# EAGLE library part CC1R5-1212SR-E (library SAE_2019)
CC1R5-1212SR-E Isolated DC/DC Converters 1.5W 12V 0.125A
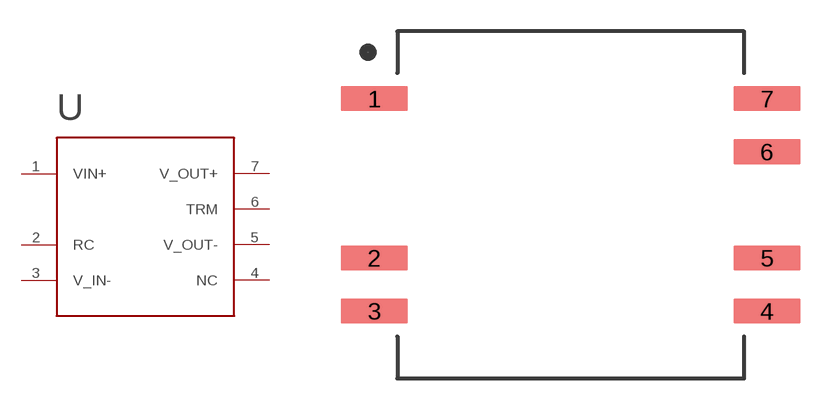
[diagram p13: symbol with the pads of CC1R5-XXXXXR-E; footprint CC1R5-XXXXXR-E]

Designator prefix -

## CC1R5-1212SR-E  [CC1R5-XXXXXR-E]
1  VIN+
2  RC
3  V_IN-
4  NC  nc
5  V_OUT-
6  TRM
7  V_OUT+

## Footprint CC1R5-XXXXXR-E (pad centres in mm)
smd 3.2 x 1.2: 1 -9.4,5.08; 2 -9.4,-2.54; 3 -9.4,-5.08; 4 9.4,-5.08; 5 9.4,-2.54; 6 9.4,2.54; 7 9.4,5.08